# EAGLE library part TPS63002DRC (library wheat)
IC, BUCK/BOOST SW REG, TPS63002, SON10
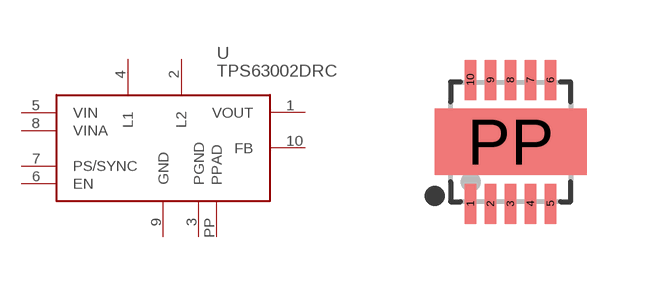
[diagram p69: symbol with the pads of SON10; footprint SON10]

Designator prefix U

## TPS63002DRC  [SON10]
1  VOUT  out
2  L2
3  PGND  pwr
4  L1
5  VIN  pwr
6  EN  in
7  PS/SYNC  in
8  VINA  pwr
9  GND  pwr
10  FB  in
PP  PPAD  pwr

## Footprint SON10 (pad centres in mm)
SON10
smd 0.28 x 1: 1 -1,-1.55; 2 -0.5,-1.55; 3 0,-1.55; 4 0.5,-1.55; 5 1,-1.55; 6 1,1.55; 7 0.5,1.55; 8 0,1.55; 9 -0.5,1.55; 10 -1,1.55
smd 3.8 x 1.65: PP 0,0